# Altium schematic symbol library ATNEL-WIFI232-T.SchLib: 1 symbol
Pins are listed as number, name and electrical type; pins without a type are passive.

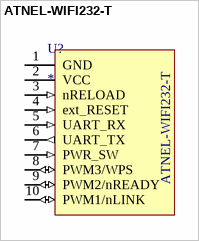
[diagram p0: symbol ATNEL-WIFI232-T]

## ATNEL-WIFI232-T
designator U?
footprint ATNEL-WIFI232-T
pins: 1 GND (power), 2 VCC (power), 3 nRELOAD (in), 4 ext_RESET (in), 5 UART_RX (in), 6 UART_TX (out), 7 PWR_SW (in), 8 PWM3/WPS (io), 9 PWM2/nREADY (io), 10 PWM1/nLINK (io)